# Altium schematic symbol library RPSLib_Filters.SchLib: 8 symbols
Pins are listed as number, name and electrical type; pins without a type are passive.

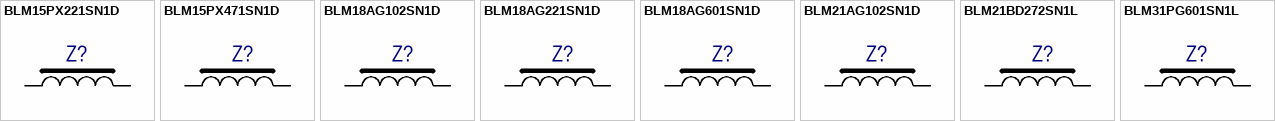
[diagram p0: symbols BLM15PX221SN1D to BLM31PG601SN1L]

## BLM15PX221SN1D
designator Z?  (value not drawn)
FERRITE BEAD 220 OHM 0402 1LN; Manufacturer: Murata; Impedance: 220R; Tolerance: 25%; Current Rating: 1.4A; DC Resistance (DCR): 100mR; Test Frequency: 100MHz; Number of Lines: 1; Supplier 1: Digi-Key; Manufacturer Part Number: BLM15PX221SN1D; RoHS: Yes; Category: Ferrite Beads and Chips; Stock 1: 277643; Pricing 1: 1=0,11000, 10=0,08800, 25=0,07920, 50=0,05800, 100=0,05020, 250=0,03960, 500=0,03344, 1000=0,02816, 5000=0,02508 (USD); Case/Package: 0402; Number of Pins: 2; Case Code (Metric): 1005; Case Code (Imperial): 0402; Material: Steel; Min Operating Temperature: -55°C; Max Operating Temperature: 125°C; Package Quantity: 1; Packaging: Tape and Reel; Max DC Current: 1.4A; Termination: SMD/SMT; Max Current Rating: 1.4A; Number of Circuits: 1; Series: BLM15PX; Length: 1mm; Width: 0.5mm; Height: 0.5mm; Lead Free: Lead Free; RoHS Compliant: Yes; ComponentLink1URL: https://datasheet.ciiva.com/12396/l0110s0100blm15px-225614-12396544.pdf?src-supplier=Mouser; ComponentLink1Description: https://datasheet.ciiva.com/12396/l0110s0100blm15px-225614-12396544.pdf?src-supplier=Mouser; ComponentLink2URL: https://datasheet.ciiva.com/41449/001172212-da-01-en-drossel-0402-220r-1-0x0-5mm-10000st-41449500.pdf?src-supplier=Conrad; ComponentLink2Description: https://datasheet.ciiva.com/41449/001172212-da-01-en-drossel-0402-220r-1-0x0-5mm-10000st-41449500.pdf?src-supplier=Conrad; ComponentLink3URL: https://datasheet.ciiva.com/29364/l0110e-29364072.pdf?src-supplier=Digi-Key; ComponentLink3Description: https://datasheet.ciiva.com/29364/l0110e-29364072.pdf?src-supplier=Digi-Key; Supplier Part Number 1: 490-11021-1-ND
footprint INDC1005X05N_BLM15Px (Chip Inductor, 2-Leads, Body 1,00x0,50mm, IPC Medium Density)
pins: 1, 2

## BLM15PX471SN1D
designator Z?  (value not drawn)
FERRITE BEAD 470 OHM 0402 1LN; Manufacturer: Murata; Tolerance: 25%; Impedance: 470R; Current Rating: 1A; DC Resistance (DCR): 200mR; Test Frequency: 100MHz; Number of Lines: 1; Supplier 1: Digi-Key; Manufacturer Part Number: BLM15PX471SN1D; RoHS: Yes; Category: Inductors; Stock 1: 267209; Pricing 1: 1=0,11000, 10=0,08800, 25=0,07920, 50=0,05820, 100=0,05020, 250=0,03964, 500=0,03348, 1000=0,02820, 5000=0,02511 (USD); Case/Package: 0402; Number of Pins: 2; Case Code (Metric): 1005; Case Code (Imperial): 0402; Material: Steel; Min Operating Temperature: -55°C; Max Operating Temperature: 125°C; Package Quantity: 1; Packaging: Tape and Reel; Max DC Current: 1A; Termination: SMD/SMT; Max Current Rating: 1A; Number of Circuits: 1; Series: BLM15PX; Length: 1mm; Width: 0.5mm; Height: 0.5mm; Lead Free: Lead Free; RoHS Compliant: Yes; ComponentLink1URL: https://datasheet.ciiva.com/41449/001172215-da-01-en-drossel-0402-470r-1-0x0-5mm-10000st-41449502.pdf?src-supplier=Conrad; ComponentLink1Description: https://datasheet.ciiva.com/41449/001172215-da-01-en-drossel-0402-470r-1-0x0-5mm-10000st-41449502.pdf?src-supplier=Conrad; ComponentLink2URL: https://datasheet.ciiva.com/29364/l0110e-29364075.pdf?src-supplier=Digi-Key; ComponentLink2Description: https://datasheet.ciiva.com/29364/l0110e-29364075.pdf?src-supplier=Digi-Key; Supplier Part Number 1: 490-10662-1-ND
footprint INDC1005X05N_BLM15Px (Chip Inductor, 2-Leads, Body 1,00x0,50mm, IPC Medium Density)
pins: 1, 2

## BLM18AG102SN1D
designator Z?  (value not drawn)
Ferrite Beads Multi-Layer 1KOhm 25% 100MHz 400mA 500mOhm DCR 0603 Paper T/R; Manufacturer: Murata; Impedance: 1kR; DC Resistance (DCR): 500mR; Number of Lines: 1; Shielding: Unshielded; Supplier 1: Digi-Key; Manufacturer Part Number: BLM18AG102SN1D; RoHS: Yes; Category: Ferrite Beads and Chips; Stock 1: 301153; Pricing 1: 1=0,10000, 10=0,07900, 25=0,07200, 50=0,06480, 100=0,04760, 250=0,03460, 500=0,03170, 1000=0,02738 (USD); Case/Package: 0603; Number of Pins: 2; Core Material: Ferrite; Case Code (Metric): 1608; Case Code (Imperial): 0603; Material: Steel,Ferrite; Min Operating Temperature: -55°C; Max Operating Temperature: 125°C; Tolerance: 25%; Max DC Current: 400mA; Package Quantity: 1; Resistance: 500mR; Packaging: Tape and Reel; Current Rating: 400mA; Max Current Rating: 400mA; Termination: SMD/SMT; Test Frequency: 100MHz; DC Current: 400mA; Military Standard: Not; Frequency: 100MHz; Number of Circuits: 1; Length: 1.6mm; Height: 0.8mm; Width: 0.8mm; Depth: 0.8mm; Radiation Hardening: No; REACH SVHC: No SVHC; Lead Free: Lead Free; ComponentLink1URL: https://datasheet.ciiva.com/1012/l0110s0100blm18a-1012016.pdf?src-supplier=Digi-Key; ComponentLink1Description: https://datasheet.ciiva.com/1012/l0110s0100blm18a-1012016.pdf?src-supplier=Digi-Key; ComponentLink2URL: https://datasheet.ciiva.com/5709/1756147-5709056.pdf?src-supplier=Farnell; ComponentLink2Description: https://datasheet.ciiva.com/5709/1756147-5709056.pdf?src-supplier=Farnell; ComponentLink3URL: https://datasheet.ciiva.com/11795/0900766b80032ea2-11795437.pdf?src-supplier=RSComponents; ComponentLink3Description: https://datasheet.ciiva.com/11795/0900766b80032ea2-11795437.pdf?src-supplier=RSComponents; ComponentLink4URL: https://datasheet.ciiva.com/41449/001172220-da-01-en-drossel-0603-1000r-1-6x0-8mm-4000st-41449508.pdf?src-supplier=Conrad; ComponentLink4Description: https://datasheet.ciiva.com/41449/001172220-da-01-en-drossel-0603-1000r-1-6x0-8mm-4000st-41449508.pdf?src-supplier=Conrad; ComponentLink5URL: https://datasheet.ciiva.com/29347/442253-da-01-en-chip-drossel-0603-1000r-400ma-1-6x0-8mm-29347887.pdf?src-supplier=Conrad; ComponentLink5Description: https://datasheet.ciiva.com/29347/442253-da-01-en-chip-drossel-0603-1000r-400ma-1-6x0-8mm-29347887.pdf?src-supplier=Conrad; ComponentLink6URL: https://datasheet.ciiva.com/1466/1756147-1466919.pdf?src-supplier=Element14; ComponentLink6Description: https://datasheet.ciiva.com/1466/1756147-1466919.pdf?src-supplier=Element14; ComponentLink7URL: https://datasheet.ciiva.com/25903/l0110s0100blm18a-25903479.pdf?src-supplier=Avnet+Europe; ComponentLink7Description: https://datasheet.ciiva.com/25903/l0110s0100blm18a-25903479.pdf?src-supplier=Avnet+Europe; ComponentLink8URL: https://datasheet.ciiva.com/1466/1756147-1466920.pdf?src-supplier=Element14; ComponentLink8Description: https://datasheet.ciiva.com/1466/1756147-1466920.pdf?src-supplier=Element14; ComponentLink9URL: https://datasheet.ciiva.com/16199/l0110s0100blm18a-16199225.pdf?src-supplier=Future+Electronics; ComponentLink9Description: https://datasheet.ciiva.com/16199/l0110s0100blm18a-16199225.pdf?src-supplier=Future+Electronics; ComponentLink10URL: https://datasheet.ciiva.com/8510/l0110s0100blm18a-8510154.pdf?src-supplier=Avnet; ComponentLink10Description: https://datasheet.ciiva.com/8510/l0110s0100blm18a-8510154.pdf?src-supplier=Avnet; ComponentLink11URL: https://datasheet.ciiva.com/1012/l0110s0100blm18a-1012014.pdf?src-supplier=Digi-Key; ComponentLink11Description: https://datasheet.ciiva.com/1012/l0110s0100blm18a-1012014.pdf?src-supplier=Digi-Key; ComponentLink12URL: https://datasheet.ciiva.com/1012/l0110s0100blm18a-1012015.pdf?src-supplier=Digi-Key; ComponentLink12Description: https://datasheet.ciiva.com/1012/l0110s0100blm18a-1012015.pdf?src-supplier=Digi-Key; Supplier Part Number 1: 490-1015-1-ND
footprint INDC1608X08N_BLM18AG (Chip Inductor, 2-Leads, Body 1,60x0,80mm, IPC Medium Density)
pins: 1, 2

## BLM18AG221SN1D
designator Z?  (value not drawn)
FERRITE CHIP 220 OHM 500MA 0603; Manufacturer: Murata; Impedance: 220R; Tolerance: 25%; DC Resistance (DCR): 250mR; Number of Lines: 1; Test Frequency: 100MHz; Shielding: Unshielded; РКД Наименование: BLM18AG221SN1D - EMI Filter, 220 Ohm, 1608M; Supplier 1: Digi-Key; Manufacturer Part Number: BLM18AG221SN1D; Stock 1: 104903; Pricing 1: 1=0.1, 10=0.079, 25=0.072, 50=0.0648, 100=0.0476, 250=0.0346, 500=0.0317, 1000=0.02738 (USD); Case/Package: 0603; Number of Pins: 2; Core Material: Ferrite; Case Code (Metric): 1608; Case Code (Imperial): 0603; Material: Steel; Min Operating Temperature: -55°C; Max Operating Temperature: 125°C; Max DC Current: 500mA; Package Quantity: 1; Max Current Rating: 500mA; Packaging: Tape and Reel; Current Rating: 500mA; Termination: SMD/SMT; DC Current: 500mA; Military Standard: Not; Frequency: 100MHz; Number of Circuits: 1; Length: 1.6mm; Height: 0.8mm; Width: 0.8mm; Depth: 0.8mm; Radiation Hardening: No; REACH SVHC: No SVHC; Lead Free: Lead Free; Supplier Part Number 1: 490-1012-1-ND
footprint INDC1608X06N_BLM18SN (Chip Inductor, 2-Leads, Body 1,60x0,80mm, IPC Medium Density)
pins: 1, 2

## BLM18AG601SN1D
designator Z?  (value not drawn)
FERRITE CHIP 600 OHM 500MA 0603; Manufacturer: Murata; Tolerance: 25%; Impedance: 600R; Number of Lines: 1; DC Resistance (DCR): 380mR; Test Frequency: 100MHz; Shielding: Unshielded; Supplier 1: Digi-Key; Manufacturer Part Number: BLM18AG601SN1D; Stock 1: 1068043; Pricing 1: 1=0.1, 10=0.079, 25=0.072, 50=0.0648, 100=0.0476, 250=0.0346, 500=0.0317, 1000=0.02738 (USD); Case/Package: 0603; Number of Pins: 2; Weight: 7.1E-05oz; Core Material: Ferrite; Case Code (Metric): 1608; Case Code (Imperial): 0603; Material: Ferrite,Steel; Min Operating Temperature: -55°C; Max Operating Temperature: 125°C; Package Quantity: 1; Max Current Rating: 500mA; Packaging: Tape and Reel; Current Rating: 500mA; Termination: SMD/SMT; Max DC Current: 500mA; DC Current: 500mA; Military Standard: Not; Frequency: 100MHz; Number of Circuits: 1; Length: 1.6mm; Height: 0.8mm; Width: 0.8mm; Depth: 0.8mm; Radiation Hardening: No; REACH SVHC: No SVHC; Lead Free: Lead Free; ComponentLink1URL: https://www.murata.com/en-us/products/productdata/8796738650142/ENFA0003.pdf; ComponentLink1Description: https://www.murata.com/en-us/products/productdata/8796738650142/ENFA0003.pdf; ComponentLink2URL: http://www.farnell.com/datasheets/1756147.pdf; ComponentLink2Description: http://www.farnell.com/datasheets/1756147.pdf; ComponentLink3URL: http://www.jameco.com/Jameco/Products/ProdDS/1844766.pdf; ComponentLink3Description: http://www.jameco.com/Jameco/Products/ProdDS/1844766.pdf; ComponentLink4URL: http://search.murata.co.jp/Ceramy/image/img/PDF/ENG/L0110S0100BLM18A.pdf; ComponentLink4Description: http://search.murata.co.jp/Ceramy/image/img/PDF/ENG/L0110S0100BLM18A.pdf; ComponentLink5URL: http://www.produktinfo.conrad.com/datenblaetter/425000-449999/442309-da-01-en-CHIP_DROSSEL_0603_600R_500MA_1_6X0_8MM.pdf; ComponentLink5Description: http://www.produktinfo.conrad.com/datenblaetter/425000-449999/442309-da-01-en-CHIP_DROSSEL_0603_600R_500MA_1_6X0_8MM.pdf; ComponentLink6URL: http://www.produktinfo.conrad.com/datenblaetter/1100000-1199999/001172228-da-01-en-DROSSEL_0603_600R_1_6X0_8MM_4000ST.pdf; ComponentLink6Description: http://www.produktinfo.conrad.com/datenblaetter/1100000-1199999/001172228-da-01-en-DROSSEL_0603_600R_1_6X0_8MM_4000ST.pdf; Supplier Part Number 1: 490-1014-1-ND
footprint INDC1608X08N_BLM18AG (Chip Inductor, 2-Leads, Body 1,60x0,80mm, IPC Medium Density)
pins: 1, 2

## BLM21AG102SN1D
designator Z?  (value not drawn)
Ferrite Beads Multi-Layer 1KOhm 25% 100MHz 500mA 280mOhm DCR 0805 Paper T/R; Manufacturer: Murata; Impedance: 1kR; Max Current Rating: 600mA; Max DC Current: 200mA; DC Resistance (DCR): 280mR; Number of Lines: 1; Shielding: Unshielded; Supplier 1: LCSC; Manufacturer Part Number: BLM21AG102SN1D; RoHS: Yes; Category: Inductors; Stock 1: 490396; Pricing 1: 1=0,16000, 10=0,13500, 25=0,10480, 50=0,08680, 100=0,07480, 250=0,05984, 500=0,05386, 1000=0,04489 (USD); Case/Package: 0805; Number of Pins: 2; Core Material: Ferrite; Case Code (Metric): 2012; Case Code (Imperial): 0805; Weight: 0.000194oz; Material: Steel,Ferrite; Min Operating Temperature: -55°C; Max Operating Temperature: 125°C; Tolerance: 25%; Package Quantity: 1; Packaging: Tape and Reel; Current Rating: 500mA; Termination: SMD/SMT; Test Frequency: 100MHz; DC Current: 200mA; Frequency: 100MHz; Number of Circuits: 1; Series: BLM21A; DC Resistance-Max: 280mR; Length: 2mm; Width: 1.25mm; Height: 0.85mm; Depth: 1.25mm; Radiation Hardening: No; REACH SVHC: No SVHC; Military Standard: Not; Lead Free: Lead Free; RoHS Compliant: Yes; ComponentLink1URL: https://datasheet.ciiva.com/19454/1845136-19454717.pdf?src-supplier=Jameco; ComponentLink1Description: https://datasheet.ciiva.com/19454/1845136-19454717.pdf?src-supplier=Jameco; ComponentLink2URL: https://datasheet.ciiva.com/18093/getdatasheetpartid-139643-18093010.pdf?src-supplier=Verical; ComponentLink2Description: https://datasheet.ciiva.com/18093/getdatasheetpartid-139643-18093010.pdf?src-supplier=Verical; ComponentLink3URL: https://datasheet.ciiva.com/41449/001172322-da-01-en-drossel-0805-1000r-2-0x1-25mm-4000st-41449636.pdf?src-supplier=Conrad; ComponentLink3Description: https://datasheet.ciiva.com/41449/001172322-da-01-en-drossel-0805-1000r-2-0x1-25mm-4000st-41449636.pdf?src-supplier=Conrad; ComponentLink4URL: https://datasheet.ciiva.com/29347/442432-da-01-en-chip-drossel-0805-1000r-200ma-2-0x1-25mm-29347996.pdf?src-supplier=Conrad; ComponentLink4Description: https://datasheet.ciiva.com/29347/442432-da-01-en-chip-drossel-0805-1000r-200ma-2-0x1-25mm-29347996.pdf?src-supplier=Conrad; ComponentLink5URL: https://datasheet.ciiva.com/8021/l0110s0100blm21a-8021548.pdf?src-supplier=Element14; ComponentLink5Description: https://datasheet.ciiva.com/8021/l0110s0100blm21a-8021548.pdf?src-supplier=Element14; ComponentLink6URL: https://datasheet.ciiva.com/8021/l0110s0100blm21a-8021550.pdf?src-supplier=Element14; ComponentLink6Description: https://datasheet.ciiva.com/8021/l0110s0100blm21a-8021550.pdf?src-supplier=Element14; ComponentLink7URL: https://datasheet.ciiva.com/6212/l0110s0100blm21a-6212347.pdf?src-supplier=Digi-Key; ComponentLink7Description: https://datasheet.ciiva.com/6212/l0110s0100blm21a-6212347.pdf?src-supplier=Digi-Key; ComponentLink8URL: https://datasheet.ciiva.com/6212/l0110s0100blm21a-6212345.pdf?src-supplier=Digi-Key; ComponentLink8Description: https://datasheet.ciiva.com/6212/l0110s0100blm21a-6212345.pdf?src-supplier=Digi-Key; ComponentLink9URL: https://datasheet.ciiva.com/6212/l0110s0100blm21a-6212318.pdf?src-supplier=Digi-Key; ComponentLink9Description: https://datasheet.ciiva.com/6212/l0110s0100blm21a-6212318.pdf?src-supplier=Digi-Key; ComponentLink10URL: https://datasheet.ciiva.com/3081/l0110s0100blm21a-3081640.pdf?src-supplier=Avnet; ComponentLink10Description: https://datasheet.ciiva.com/3081/l0110s0100blm21a-3081640.pdf?src-supplier=Avnet; ComponentLink11URL: https://datasheet.ciiva.com/16286/l0110s0100blm21a-16286461.pdf?src-supplier=Future+Electronics; ComponentLink11Description: https://datasheet.ciiva.com/16286/l0110s0100blm21a-16286461.pdf?src-supplier=Future+Electronics; ComponentLink12URL: https://datasheet.ciiva.com/3082/l0110s0100blm21a-3082728.pdf?src-supplier=Avnet; ComponentLink12Description: https://datasheet.ciiva.com/3082/l0110s0100blm21a-3082728.pdf?src-supplier=Avnet; Supplier Part Number 1: C85835
footprint INDC2012X14N_BLM21BD272SN1 (Chip Inductor, 2-Leads, Body 2,00x1,25mm, IPC Medium Density)
pins: 1, 2

## BLM21BD272SN1L
designator Z?  (value not drawn)
Murata Ferrite Bead (Chip Bead), 2 x 1.25 x 1.25mm (0805); Impedance: 2.7kR; Tolerance: 25%; DC Resistance (DCR): 800mR; Max DC Current: 200mA; Number of Lines: 1; Test Frequency: 100MHz; Shielding: Unshielded; Supplier 1: Digi-Key; Manufacturer: Murata; Manufacturer Part Number: BLM21BD272SN1L; Stock 1: 74363; Pricing 1: 1=0,19000, 10=0,14600, 25=0,12040, 50=0,10400, 100=0,09360, 250=0,07900, 500=0,07068, 1000=0,06029 (USD); RoHS: Yes; Case/Package: 0805; Number of Pins: 2; Weight: 0.000194oz; Core Material: Ferrite; Case Code (Metric): 2012; Case Code (Imperial): 0805; Material: Steel,Ferrite; Min Operating Temperature: -55°C; Max Operating Temperature: 125°C; Package Quantity: 1; Max Current Rating: 200mA; Packaging: Tape and Reel; Current Rating: 200mA; Termination: SMD/SMT; Frequency: 100MHz; Length: 2mm; Height: 0.85mm; Width: 1.25mm; Depth: 1.25mm; REACH SVHC: No SVHC; Lead Free: Lead Free; ComponentLink1URL: https://datasheet.ciiva.com/34302/1845283-34302806.pdf?src-supplier=Jameco; ComponentLink1Description: https://datasheet.ciiva.com/34302/1845283-34302806.pdf?src-supplier=Jameco; ComponentLink2URL: https://datasheet.ciiva.com/11795/0900766b81275df9-11795726.pdf?src-supplier=RSComponents; ComponentLink2Description: https://datasheet.ciiva.com/11795/0900766b81275df9-11795726.pdf?src-supplier=RSComponents; ComponentLink3URL: https://datasheet.ciiva.com/41449/001171735-da-01-en-chip-drossel0805-2700r-200ma-2-0x1-25mm-41449365.pdf?src-supplier=Conrad; ComponentLink3Description: https://datasheet.ciiva.com/41449/001171735-da-01-en-chip-drossel0805-2700r-200ma-2-0x1-25mm-41449365.pdf?src-supplier=Conrad; ComponentLink4URL: https://datasheet.ciiva.com/41449/001172353-da-01-en-drossel-0805-2700r-2-0x1-25mm-3000st-41449595.pdf?src-supplier=Conrad; ComponentLink4Description: https://datasheet.ciiva.com/41449/001172353-da-01-en-drossel-0805-2700r-2-0x1-25mm-3000st-41449595.pdf?src-supplier=Conrad; ComponentLink5URL: https://datasheet.ciiva.com/1012/l0110s0100blm21b-1012866.pdf?src-supplier=Digi-Key; ComponentLink5Description: https://datasheet.ciiva.com/1012/l0110s0100blm21b-1012866.pdf?src-supplier=Digi-Key; ComponentLink6URL: https://datasheet.ciiva.com/1012/l0110s0100blm21b-1012867.pdf?src-supplier=Digi-Key; ComponentLink6Description: https://datasheet.ciiva.com/1012/l0110s0100blm21b-1012867.pdf?src-supplier=Digi-Key; ComponentLink7URL: https://datasheet.ciiva.com/1012/l0110s0100blm21b-1012868.pdf?src-supplier=Digi-Key; ComponentLink7Description: https://datasheet.ciiva.com/1012/l0110s0100blm21b-1012868.pdf?src-supplier=Digi-Key; ComponentLink8URL: https://datasheet.ciiva.com/3081/l0110s0100blm21b-3081652.pdf?src-supplier=Avnet; ComponentLink8Description: https://datasheet.ciiva.com/3081/l0110s0100blm21b-3081652.pdf?src-supplier=Avnet; ComponentLink9URL: https://datasheet.ciiva.com/14122/amblm21b-data-e-14122853.pdf?src-supplier=Distrelec; ComponentLink9Description: https://datasheet.ciiva.com/14122/amblm21b-data-e-14122853.pdf?src-supplier=Distrelec; ComponentLink10URL: https://datasheet.ciiva.com/8021/5159-8021579.pdf?src-supplier=Element14; ComponentLink10Description: https://datasheet.ciiva.com/8021/5159-8021579.pdf?src-supplier=Element14; ComponentLink11URL: https://datasheet.ciiva.com/17246/l0110s0100blm21b-17246955.pdf?src-supplier=Avnet+Europe; ComponentLink11Description: https://datasheet.ciiva.com/17246/l0110s0100blm21b-17246955.pdf?src-supplier=Avnet+Europe; ComponentLink12URL: https://datasheet.ciiva.com/8021/5159-8021581.pdf?src-supplier=Element14; ComponentLink12Description: https://datasheet.ciiva.com/8021/5159-8021581.pdf?src-supplier=Element14; Supplier Part Number 1: 490-1051-1-ND
footprint INDC2012X14N_BLM21BD272SN1 (Chip Inductor, 2-Leads, Body 2,00x1,25mm, IPC Medium Density)
pins: 1, 2

## BLM31PG601SN1L
designator Z?  (value not drawn)
MURATA - BLM31PG601SN1L - FERRITE BEAD, 600R, 1.5A, 1206; Tolerance: 25%; Number of Lines: 1; DC Resistance (DCR): 80mR; Test Frequency: 100MHz; Shielding: Unshielded; Supplier 1: Digi-Key; Manufacturer: Murata; Manufacturer Part Number: BLM31PG601SN1L; RoHS: Yes; Category: Inductors; Stock 1: 164932; Pricing 1: 1=0,31000, 10=0,24100, 25=0,19920, 50=0,17180, 100=0,15470, 250=0,13064, 500=0,11688, 1000=0,09969 (USD); Case/Package: 1206; Number of Pins: 2; Weight: 0.000353oz; Core Material: Ferrite; Case Code (Metric): 3216; Case Code (Imperial): 1206; Material: Steel,Ferrite; Contact Plating: Tin,Matte; Min Operating Temperature: -55°C; Max Operating Temperature: 125°C; Impedance: 600R; Package Quantity: 1; Max Current Rating: 1.5A; Packaging: Tape and Reel; Current Rating: 1.5A; Termination: SMD/SMT; Max DC Current: 1.5A; DC Current: 1.5A; Military Standard: Not; Frequency: 100MHz; Length: 3.2mm; Height: 1.1mm; Width: 1.6mm; Depth: 1.6mm; Radiation Hardening: No; Lead Free: Lead Free; ComponentLink1URL: https://datasheet.ciiva.com/11799/0900766b811b5866-11799751.pdf?src-supplier=RSComponents; ComponentLink1Description: https://datasheet.ciiva.com/11799/0900766b811b5866-11799751.pdf?src-supplier=RSComponents; ComponentLink2URL: https://datasheet.ciiva.com/41449/001172387-da-01-en-drossel-1206-600r-3-2x1-60mm-3000st-41449555.pdf?src-supplier=Conrad; ComponentLink2Description: https://datasheet.ciiva.com/41449/001172387-da-01-en-drossel-1206-600r-3-2x1-60mm-3000st-41449555.pdf?src-supplier=Conrad; ComponentLink3URL: https://datasheet.ciiva.com/29348/442583-da-01-en-chip-drossel-1206-600r-1500ma-3-2x1-60mm-29348020.pdf?src-supplier=Conrad; ComponentLink3Description: https://datasheet.ciiva.com/29348/442583-da-01-en-chip-drossel-1206-600r-1500ma-3-2x1-60mm-29348020.pdf?src-supplier=Conrad; ComponentLink4URL: https://datasheet.ciiva.com/41449/001172388-da-01-en-drossel-1206-600r-3-2x1-60mm-3000st-41449558.pdf?src-supplier=Conrad; ComponentLink4Description: https://datasheet.ciiva.com/41449/001172388-da-01-en-drossel-1206-600r-3-2x1-60mm-3000st-41449558.pdf?src-supplier=Conrad; ComponentLink5URL: https://datasheet.ciiva.com/1012/l0110s0100blm31p-1012994.pdf?src-supplier=Digi-Key; ComponentLink5Description: https://datasheet.ciiva.com/1012/l0110s0100blm31p-1012994.pdf?src-supplier=Digi-Key; ComponentLink6URL: https://datasheet.ciiva.com/1012/l0110s0100blm31p-1012995.pdf?src-supplier=Digi-Key; ComponentLink6Description: https://datasheet.ciiva.com/1012/l0110s0100blm31p-1012995.pdf?src-supplier=Digi-Key; ComponentLink7URL: https://datasheet.ciiva.com/1012/l0110s0100blm31p-1012996.pdf?src-supplier=Digi-Key; ComponentLink7Description: https://datasheet.ciiva.com/1012/l0110s0100blm31p-1012996.pdf?src-supplier=Digi-Key; ComponentLink8URL: https://datasheet.ciiva.com/3081/l0110s0100blm31p-3081668.pdf?src-supplier=Avnet; ComponentLink8Description: https://datasheet.ciiva.com/3081/l0110s0100blm31p-3081668.pdf?src-supplier=Avnet; ComponentLink9URL: https://datasheet.ciiva.com/16220/l0110s0100blm31p-16220677.pdf?src-supplier=Future+Electronics; ComponentLink9Description: https://datasheet.ciiva.com/16220/l0110s0100blm31p-16220677.pdf?src-supplier=Future+Electronics; ComponentLink10URL: https://datasheet.ciiva.com/14187/apblm31p-data-e-14187399.pdf?src-supplier=Distrelec; ComponentLink10Description: https://datasheet.ciiva.com/14187/apblm31p-data-e-14187399.pdf?src-supplier=Distrelec; Supplier Part Number 1: 490-1057-1-ND
footprint INDC3216X11N_BLM31PG (Chip Inductor, 2-Leads, Body 3,20x1,60mm, IPC Medium Density)
pins: 1, 2